# Altium schematic symbol library CON-SOCJ-2155.SchLib: 1 symbol
Pins are listed as number, name and electrical type; pins without a type are passive.

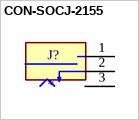
[diagram p0: symbol CON-SOCJ-2155]

## CON-SOCJ-2155
designator J?
DC Power Connectors Power Jack/Connector 2.1mm x 5.5mm; MF: Gravitech; MP: CON-SOCJ-2155; Package: None; Value: *; Availability: In Stock; Check_prices: https://www.snapeda.com/parts/CON-SOCJ-2155/Gravitech/view-part/?ref=eda; SnapEDA_Link: https://www.snapeda.com/parts/CON-SOCJ-2155/Gravitech/view-part/?ref=snap; Price: None
footprint GRAVITECH_CON-SOCJ-2155
pins: 1, 2, 3